# EAGLE library part I__4527 (library ..SMD)
BCD rate MULTIPLIER
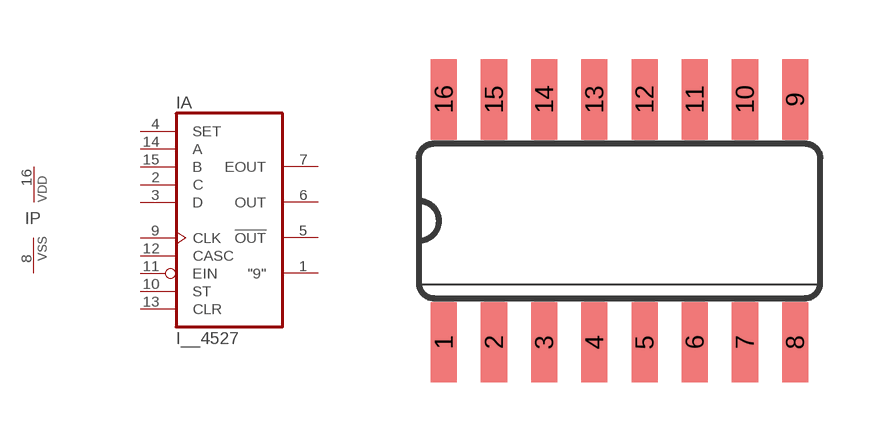
[diagram p111: symbol with the pads of SO16; footprint SO16]

Designator prefix I; gates A=4527 P=PWRN

## I__4527D  [SO16]
1  A:"9"  out
2  A:C  in
3  A:D  in
4  A:SET  in
5  A:!OUT  out
6  A:OUT  out
7  A:EOUT  out
8  P:VSS  pwr
9  A:CLK  in
10  A:ST  in
11  A:EIN  in
12  A:CASC  in
13  A:CLR  in
14  A:A  in
15  A:B  in
16  P:VDD  pwr

## Footprint SO16 (pad centres in mm)
Small Outline Package 16
smd 0.66 x 2.032: 1 -4.445,-3.073; 2 -3.175,-3.073; 3 -1.905,-3.073; 4 -0.635,-3.073; 5 0.635,-3.073; 6 1.905,-3.073; 7 3.175,-3.073; 8 4.445,-3.073; 9 4.445,3.073; 10 3.175,3.073; 11 1.905,3.073; 12 0.635,3.073; 13 -0.635,3.073; 14 -1.905,3.073; 15 -3.175,3.073; 16 -4.445,3.073